# Altium footprint library RES_0R_0603.PcbLib: 1 footprints
Each footprint in its own frame and in the unit in brackets; x right, y up, seen from the top. Pads: shape width x height; smd on the part's side, far side on the other; paste and mask are expansions set on the pad; w line width, h text height; cw(c..) or ccw(c..) is an arc to the next point about the centre after c.
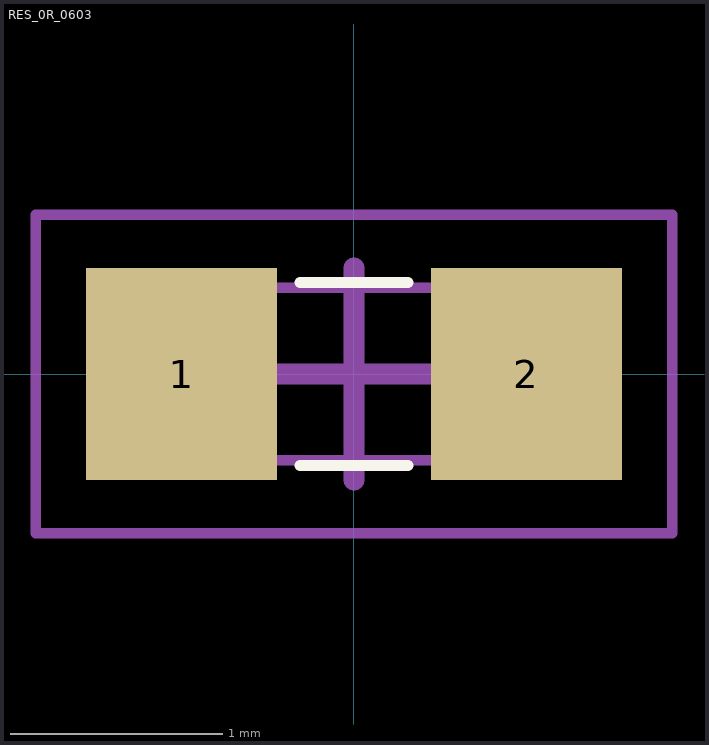
[diagram p0: the footprint, top view; thin cyan lines are the x and y axes]

## RES_0R_0603 [mm]
pads (2):
  rect 0.9x1 smd: 1(-0.813,0) 2(0.813,0)
Top Overlay:
  lines w0.051: -0.254,-0.432 0.254,-0.432 ; -0.254,0.432 0.254,0.432
Top Assembly:
  lines w0.05: -0.8,-0.406 0.8,-0.406 0.8,0.406 -0.8,0.406 -0.8,-0.406
  text ".designator" at -1.397,-0.135 h0.64
Top Courtyard:
  lines w0.05: -1.5,-0.75 1.5,-0.75 1.5,0.75 -1.5,0.75 -1.5,-0.75
  lines w0.1: -0.5,0 0.5,0 ; 0,-0.5 0,0.5
3D body "RES_10K_0603.step": height 0.71, standoff 0, extent -0.8,-0.406 0.8,0.406